# Altium footprint library Wifi-Vista_6AXIS.PcbLib: 1 footprints
Each footprint in its own frame and in the unit in brackets; x right, y up, seen from the top. Pads: shape width x height; smd on the part's side, far side on the other; paste and mask are expansions set on the pad; w line width, h text height; cw(c..) or ccw(c..) is an arc to the next point about the centre after c.
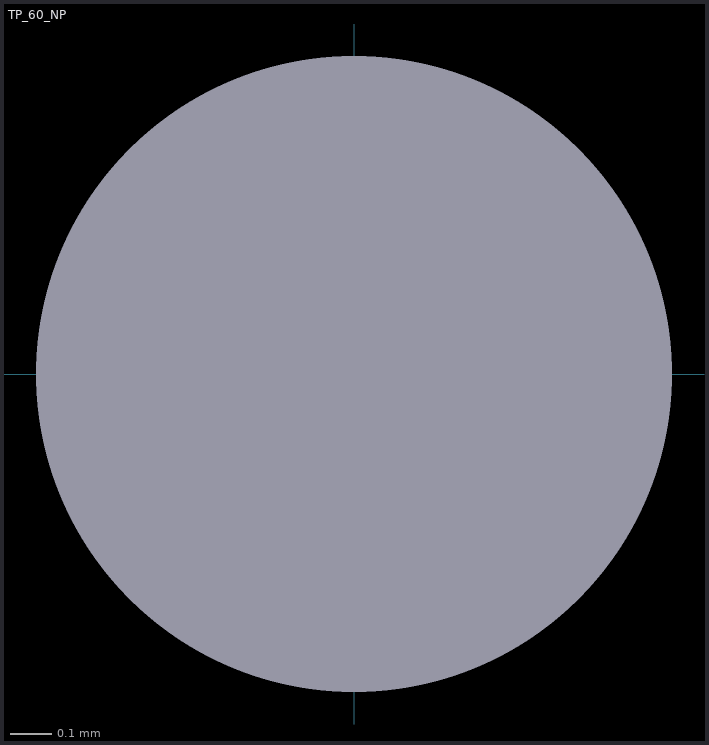
[diagram p0: the footprint, top view; thin cyan lines are the x and y axes]

## TP_60_NP [mil] "Test Point Hole- 20mil Pad- 30x30mil"
pads (1):
  round 0 hole 60 mask+3: 1(0,0)
Keep-Out Layer:
  text "''.Designator'" at 0,0 h40